# Altium footprint library 2014-09-02_06-17-43.PcbLib: 6 footprints
Each footprint in its own frame and in the unit in brackets; x right, y up, seen from the top. Pads: shape width x height; smd on the part's side, far side on the other; paste and mask are expansions set on the pad; w line width, h text height; cw(c..) or ccw(c..) is an arc to the next point about the centre after c.
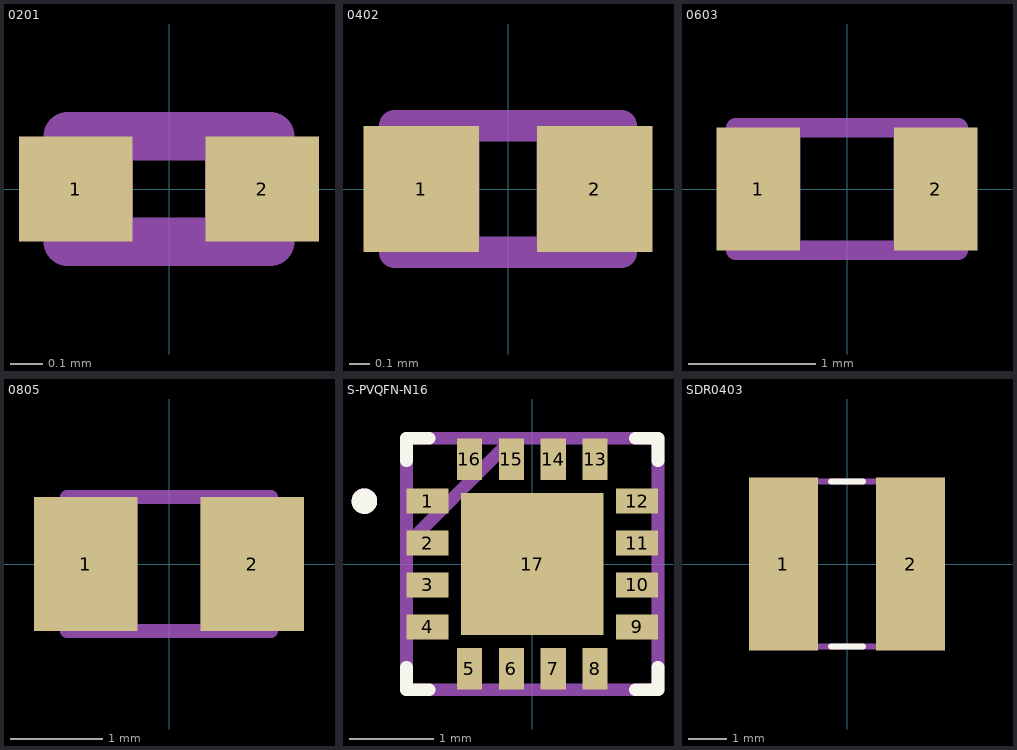
[diagram p0: the footprints below, top view; thin cyan lines are the x and y axes]

## 0201 [mil]
height 13
pads (2):
  rect 14x13 smd: 1(-11.5,0) 2(11.5,0)
Mechanical 1:
  lines w6: -12.5,-6.5 -12.5,6.5 12.5,6.5 12.5,-6.5 -12.5,-6.5
  text "13" at 0,0 h50
Mechanical 13:
  lines w0: -12.5,-6.5 -12.5,6.5 ; -12.5,-6.5 -4.5,-6.5 -4.5,6.5 -12.5,6.5 ; -12.5,-6.5 12.5,-6.5 ; -12.5,-6.5 -12.5,6.5 ; -12.5,6.5 12.5,6.5 ; 12.5,-6.5 4.5,-6.5 4.5,6.5 12.5,6.5 ; 12.5,-6.5 12.5,6.5 ; 12.5,-6.5 12.5,6.5

## 0402 [mil]
height 22
pads (2):
  rect 22x24 smd: 1(-16.5,0) 2(16.5,0)
Mechanical 1:
  lines w6: -21.5,-12 -21.5,12 21.5,12 21.5,-12 -21.5,-12
  text "22" at 0,0 h50
Mechanical 13:
  lines w0: -21.5,-12 -21.5,12 ; -21.5,-12 -5.5,-12 -5.5,12 -21.5,12 ; -21.5,-12 21.5,-12 ; -21.5,-12 -21.5,12 ; -21.5,12 21.5,12 ; 21.5,-12 5.5,-12 5.5,12 21.5,12 ; 21.5,-12 21.5,12 ; 21.5,-12 21.5,12

## 0603 [mil]
height 20
pads (2):
  rect 26x38 smd: 1(-27.5,0) 2(27.5,0)
Mechanical 1:
  lines w6: -34.5,-19 -34.5,19 34.5,19 34.5,-19 -34.5,-19
  text "20" at 0,0 h50
Mechanical 13:
  lines w0: -34.5,-19 -34.5,19 ; -34.5,-19 -14.5,-19 -14.5,19 -34.5,19 ; -34.5,-19 34.5,-19 ; -34.5,-19 -34.5,19 ; -34.5,19 34.5,19 ; 34.5,-19 14.5,-19 14.5,19 34.5,19 ; 34.5,-19 34.5,19 ; 34.5,-19 34.5,19

## 0805 [mil]
height 57
pads (2):
  rect 44x57 smd: 1(-35.5,0) 2(35.5,0)
Mechanical 1:
  lines w6: -43.5,-28.5 -43.5,28.5 43.5,28.5 43.5,-28.5 -43.5,-28.5
  text "57" at 0,0 h50
Mechanical 13:
  lines w0: -43.5,-28.5 -43.5,28.5 ; -43.5,-28.5 -13.5,-28.5 -13.5,28.5 -43.5,28.5 ; -43.5,-28.5 43.5,-28.5 ; -43.5,-28.5 -43.5,28.5 ; -43.5,28.5 43.5,28.5 ; 43.5,-28.5 13.5,-28.5 13.5,28.5 43.5,28.5 ; 43.5,-28.5 43.5,28.5 ; 43.5,-28.5 43.5,28.5

## S-PVQFN-N16 [mm]
height 1
pads (17):
  rect 0.5x0.3 smd: 1(-1.25,0.75) 2(-1.25,0.25) 3(-1.25,-0.25) 4(-1.25,-0.75) 9(1.25,-0.75) 10(1.25,-0.25) 11(1.25,0.25) 12(1.25,0.75)
  rect 0.3x0.5 smd: 5(-0.75,-1.25) 6(-0.25,-1.25) 7(0.25,-1.25) 8(0.75,-1.25) 13(0.75,1.25) 14(0.25,1.25) 15(-0.25,1.25) 16(-0.75,1.25)
  rect 1.7x1.7 smd paste-0.837: 17(0,0)
Top Overlay:
  circle w0.152: c-2.004,0.75 r0.076
  lines w0.152: -1.5,-1.233 -1.5,-1.5 -1.233,-1.5 ; -1.5,1.233 -1.5,1.5 -1.233,1.5 ; 1.233,-1.5 1.5,-1.5 1.5,-1.233 ; 1.233,1.5 1.5,1.5 1.5,1.233
Top Paste:
  region: 0.85,0.85 -0.85,0.85 -0.85,-0.85 0.85,-0.85
Mechanical 1:
  circle w0.152: c-2.004,0.75 r0.076
  lines w0.152: -1.5,0.23 -0.23,1.5 ; -1.5,-1.5 -1.5,1.5 1.5,1.5 1.5,-1.5 -1.5,-1.5
  text "39.37008" at 0,0 h1.27
Mechanical 13:
  circle w0: c-2.004,0.75 r0.076
  lines w0: -1.5,0.23 -0.23,1.5 ; -1.5,-1.5 1.5,-1.5 1.5,1.5 -1.5,1.5 -1.5,-1.5

## SDR0403 [mil]
pads (2):
  rect 71x177 smd: 1(-65,0) 2(65,0)
Top Overlay:
  lines w6: -16.4,-84.5 16.4,-84.5 ; -16.4,84.5 16.4,84.5
Mechanical 1:
  lines w6: -94.5,-84.5 94.5,-84.5 94.5,84.5 -94.5,84.5 -94.5,-84.5
Mechanical 13:
  lines w0: -94.5,-84.5 94.5,-84.5 ; -94.5,-84.5 -94.5,-84.5 ; -94.5,-84.5 -94.5,84.5 ; -94.5,84.5 94.5,84.5 ; -94.5,84.5 -94.5,84.5 ; 94.5,-84.5 94.5,84.5 ; 94.5,-84.5 94.5,-84.5 ; 94.5,84.5 94.5,84.5